# EAGLE library part SI8662 (library silabs)
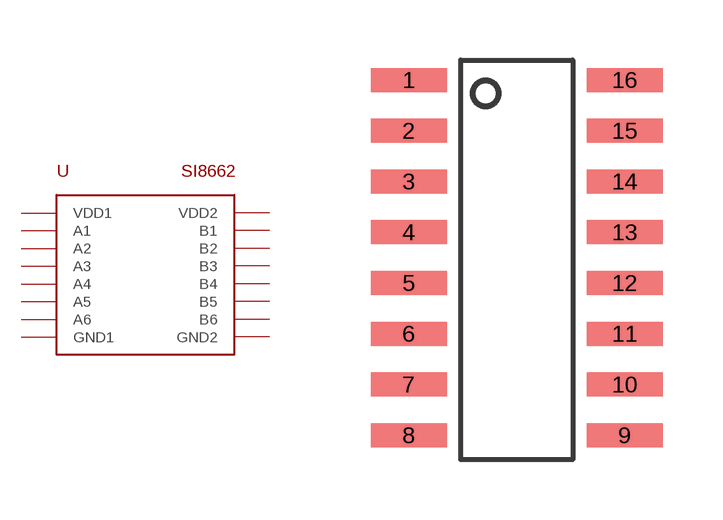
[diagram p8: symbol with the pads of SI866X; footprint SI866X]

Designator prefix U

## SI8662  [SI866X]
1  VDD1
2  A1
3  A2
4  A3
5  A4
6  A5
7  A6
8  GND1
9  GND2
10  B6
11  B5
12  B4
13  B3
14  B2
15  B1
16  VDD2

## Footprint SI866X (pad centres in mm)
smd 1.9 x 0.6: 1 -2.7,4.445; 2 -2.7,3.175; 3 -2.7,1.905; 4 -2.7,0.635; 5 -2.7,-0.635; 6 -2.7,-1.905; 7 -2.7,-3.175; 8 -2.7,-4.445; 9 2.7,-4.445; 10 2.7,-3.175; 11 2.7,-1.905; 12 2.7,-0.635; 13 2.7,0.635; 14 2.7,1.905; 15 2.7,3.175; 16 2.7,4.445